# Altium integrated library Holtek Semiconductor Timepiece.IntLib: 2 symbols
Pins are listed as number, name and electrical type; pins without a type are passive.

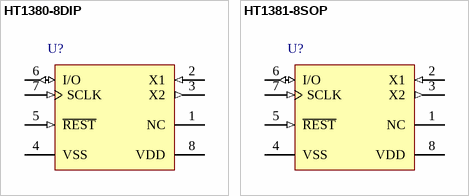
[diagram p0: symbols HT1380-8DIP to HT1381-8SOP]

## HT1380-8DIP
designator U?
Serial Timekeeper Chip, 8-Pin DIP; DatasheetVersion: Rev1.11, Feb-2009; PackageVersion: 25/05/2010; PackageReference: 8DIP; PackageDescription: 8-Pin, Dual In-line Package, 300mil Width, Pitch 2.54 mm; ComponentLink1Description: Manufacturer URL; ComponentLink1URL: http://www.holtek.com/; ComponentLink2Description: Datasheet; ComponentLink2URL: http://www.holtek.com/pdf/consumer/1380_1v111.pdf; ComponentLink3Description: Package Specification; ComponentLink3URL: http://www.holtek.com/english/literature/package.pdf
footprint 8DIP (DIP, 8-Leads, Row Spacing 7.62mm, Pitch 2.54mm, Body 9.3x6.4mm)
pins: 1 NC, 2 X1 (in), 3 X2 (out), 4 VSS (power), 5 ~{REST} (in), 6 I/O (io), 7 SCLK (in), 8 VDD (power)

## HT1381-8SOP
designator U?
Serial Timekeeper Chip, 8-Pin SOP; DatasheetVersion: Rev1.11, Feb-2009; PackageVersion: 25/05/2010; PackageReference: 8SOP; PackageDescription: 8-Pin Small Outline Package, 150mil Wide, 1.27 mm Pitch; Code_JEDEC: MS-012; Code_IPC: SOIC127P600-8; ComponentLink1Description: Manufacturer URL; ComponentLink1URL: http://www.holtek.com/; ComponentLink2Description: Datasheet; ComponentLink2URL: http://www.holtek.com/pdf/consumer/1380_1v111.pdf; ComponentLink3Description: Package Specification; ComponentLink3URL: http://www.holtek.com/english/literature/package.pdf
footprint 8SOP_N (SOIC, 8-Leads, Body 4.9x3.9mm, Pitch 1.27mm, IPC Medium Density)
footprint 8SOP_L (SOIC, 8-Leads, Body 4.9x3.9mm, Pitch 1.27mm, IPC High Density)
footprint 8SOP_M (SOIC, 8-Leads, Body 4.9x3.9mm, Pitch 1.27mm, IPC Low Density)
pins: 1 NC, 2 X1 (in), 3 X2 (out), 4 VSS (power), 5 ~{REST} (in), 6 I/O (io), 7 SCLK (in), 8 VDD (power)